# Altium footprint library PCB - CONNECTOR - MOLEX - MOLEX 395021008.PcbLib: 1 footprints
Each footprint in its own frame and in the unit in brackets; x right, y up, seen from the top. Pads: shape width x height; smd on the part's side, far side on the other; paste and mask are expansions set on the pad; w line width, h text height; cw(c..) or ccw(c..) is an arc to the next point about the centre after c.
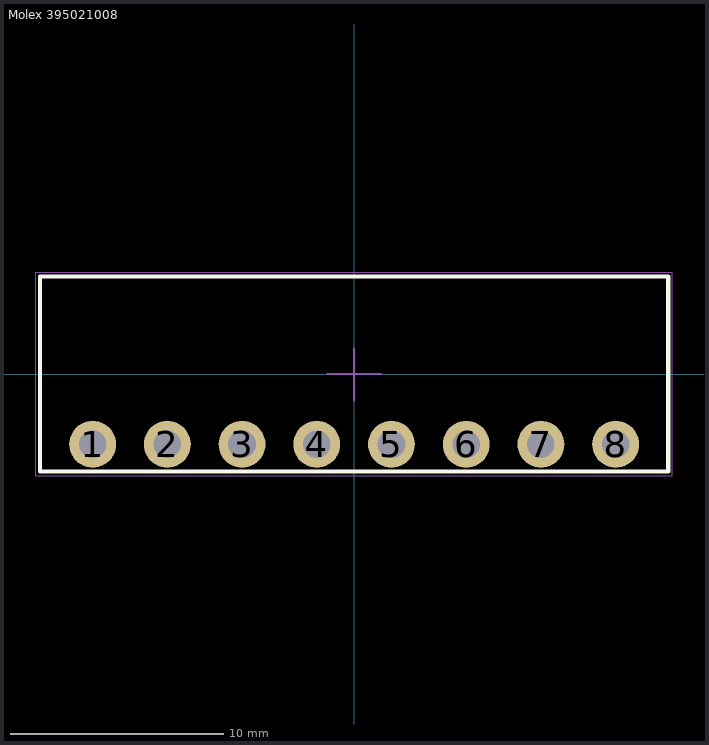
[diagram p0: the footprint, top view; thin cyan lines are the x and y axes]

## Molex 395021008 [mil] "8 Position Terminal Block Header, Male Pins, 3.5mm Pitch,29.46mmx9.2mm Body, 90°, Right Angle, THT"
height 287.4
pads (8):
  round 86.61 hole 51: 1(-483,-130) 2(-345,-130) 3(-207,-130) 4(-69,-130) 5(69,-130) 6(207,-130) 7(345,-130) 8(483,-130)
Top Overlay:
  lines w7.87: -580,-180 -580,180 580,180 580,-180 -580,-180
Mechanical 13:
  lines w3.94: -580,-180 580,-180 580,180 -580,180 -580,-180
Mechanical 15 (Mech15):
  lines w1.97: -587.87,-187.87 -587.87,187.87 587.39,187.87 587.39,-187.87 -587.87,-187.87
  lines w3.94: -49.21,0 0,0 ; 0,-49.21 0,0 ; 0,47.24 0,0 ; 49.21,0 0,0
3D body "Molex - 395021008 v1.step": height 280, standoff -140, extent -580,-180 580,180